# Altium schematic symbol library UCAGPS.SchLib: 7 symbols
Pins are listed as number, name and electrical type; pins without a type are passive.

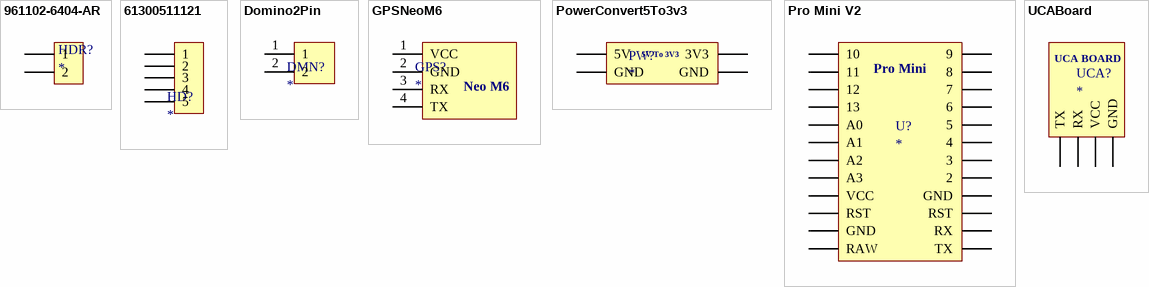
[diagram p0: symbols 961102-6404-AR to UCABoard]

## 961102-6404-AR
designator HDR?
CONN HEADER VERT SGL 2POS GOLD; Manufacturer: 3M; Manufacturer Part Number: 961102-6404-AR; Max Current Rating: 2A; Number of Positions: 2; Gender: Male; Connector Type: Male Pin; Pitch: 2.54mm; Contact Post Length: 3.3mm; Supplier 1: Digi-Key; Stock 1: 58970; Pricing 1: 1 = 0.22000, 10 = 0.21000, 25 = 0.17920, 50 = 0.15680, 100 = 0.14560, 250 = 0.12880, 500 = 0.12320 (USD); RoHS: Yes; Mount: Through Hole; Contact Plating: Gold; Contact Material: Copper Alloy,Copper; Color: Black; Housing Color: Black; Housing Material: Thermoplastic; Min Operating Temperature: -25°C; Max Operating Temperature: 105°C; Number of Rows: 1; Package Quantity: 3000; Packaging: Bulk; Contact Gender: Male; Current Rating: 2A; Termination: Solder; Number of Contacts: 2; Orientation: Straight; Length: 5.08mm; Contact Mating Length: 0.22inch; Depth: 2.5mm; REACH SVHC: Unknown; ComponentLink1URL: https://datasheet.ciiva.com/14617/70237733-14617125.pdf?src-supplier=Allied+Electronics; ComponentLink1Description: https://datasheet.ciiva.com/14617/70237733-14617125.pdf?src-supplier=Allied+Electronics; ComponentLink2URL: https://datasheet.ciiva.com/731/ts2181-731431.pdf?src-supplier=Digi-Key; ComponentLink2Description: https://datasheet.ciiva.com/731/ts2181-731431.pdf?src-supplier=Digi-Key; ComponentLink3URL: https://datasheet.ciiva.com/7997/ts2181-7997272.pdf?src-supplier=Element14; ComponentLink3Description: https://datasheet.ciiva.com/7997/ts2181-7997272.pdf?src-supplier=Element14; ComponentLink4URL: https://datasheet.ciiva.com/5724/ts2181-5724889.pdf?src-supplier=Farnell; ComponentLink4Description: https://datasheet.ciiva.com/5724/ts2181-5724889.pdf?src-supplier=Farnell; ComponentLink5URL: https://datasheet.ciiva.com/46428/1794052-46428554.pdf?src-supplier=Element14; ComponentLink5Description: https://datasheet.ciiva.com/46428/1794052-46428554.pdf?src-supplier=Element14; Supplier Part Number 1: 3M9457-02-ND
footprint header2pin
pins: 1, 2

## 61300511121
designator HD?
WURTH ELEKTRONIK         61300511121            Board-To-Board Connector, Vertical, WR-PHD Series, Through Hole, Header, 5 Contacts, 2.54 mm; Manufacturer: Wurth Electronics; Number of Positions: 5; Gender: Male; Connector Type: Male Pin; Pitch: 0.1inch; Supplier 1: Digi-Key; Manufacturer Part Number: 61300511121; Stock 1: 24299; Pricing 1: 1 = 0.25000, 10 = 0.20900, 25 = 0.17400, 50 = 0.14500, 100 = 0.13200, 1000 = 0.12000 (USD); RoHS: Yes; Mount: Through Hole; Contact Plating: Gold; Contact Material: Copper; Color: Black; Number of Rows: 1; Packaging: Bulk; Termination: Solder; Number of Contacts: 5; Contact Mating Length: 0.236inch; REACH SVHC: Unknown; Lead Free: Lead Free; ComponentLink1URL: https://katalog.we-online.de/em/datasheet/6130xx11121.pdf?src-supplier=Digi-Key; ComponentLink1Description: https://katalog.we-online.de/em/datasheet/6130xx11121.pdf?src-supplier=Digi-Key; ComponentLink2URL: http://www.farnell.com/cad/1737268.pdf?src-supplier=Element14; ComponentLink2Description: http://www.farnell.com/cad/1737268.pdf?src-supplier=Element14; Supplier Part Number 1: 732-5318-ND
footprint HEADER
pins: 1, 2, 3, 4, 5

## Domino2Pin
designator DMN?
footprint CONN-SIL2
pins: 1, 2

## GPSNeoM6
designator GPS?
footprint GPSNEOM6
pins: 1 VCC, 2 GND, 3 RX, 4 TX
text: Neo M6

## PowerConvert5To3v3
designator PW?
Convert 5 to 3.3
footprint PowerConvert5To3v3
pins: 1 5V, 2 GND, 3 GND, 4 3V3
text: 5V To 3V3

## Pro Mini V2
designator U?
arduino pro mini
footprint ProMiniV2
pins: 1 10, 2 11, 3 12, 4 13, 5 A0, 6 A1, 7 A2, 8 A3, 9 VCC, 10 RST, 11 GND, 12 RAW, 13 TX, 14 RX, 15 RST, 16 GND, 17 2, 18 3, 19 4, 20 5, 21 6, 22 7, 23 8, 24 9
text: Pro Mini

## UCABoard
designator UCA?
footprint UCABOARD (lora antena)
pins: 1 TX, 2 RX, 3 VCC, 4 GND
text: UCA BOARD